# Altium schematic symbol library pin_functions_native.SchLib: 2 symbols
Pins are listed as number, name and electrical type; pins without a type are passive.

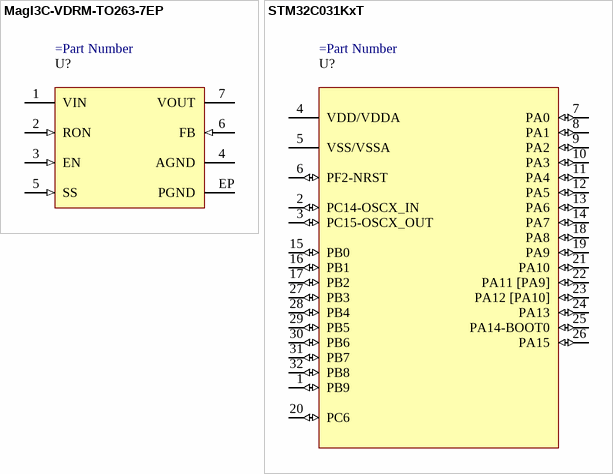
[diagram p0: symbols MagI3C-VDRM-TO263-7EP to STM32C031KxT]

## MagI3C-VDRM-TO263-7EP
designator U?
Variable step-down regulator module, TO263-7EP; EP is PGND
footprint TO263-7EP (TO263-7EP; pin EP connects to PGND)
pins: 1 VIN (power), 2 RON (in), 3 EN (in), 4 AGND (power), 5 SS (in), 6 FB (in), 7 VOUT (power), EP PGND (power)

## STM32C031KxT
designator U?
STM32C031KxT microcontroller, LQFP32; PA9/PA10 remapping supported
footprint LQFP-32 (LQFP32, 7x7mm body, 0.8mm pitch)
pins: 1 PB9 (io) "Functions: IR_OUT USART2_RTS_DE_CK TIM17_CH1 TIM3_CH2 I2C1_SDA EVENTOUT", 2 PC14-OSCX_IN (io) "Functions: PC14 USART1_TX TIM1_ETR TIM1_BKIN2 IR_OUT USART2_RTS_DE_CK TIM17_CH1 TIM3_CH2 I2C1_SDA EVENTOUT OSCX_IN", 3 PC15-OSCX_OUT (io) "Functions: PC15 OSC32_EN OSC_EN TIM1_ETR TIM3_CH3 OSCX_OUT", 4 VDD/VDDA (power) "Functions: VDD VDDA", 5 VSS/VSSA (power) "Functions: VSS VSSA", 6 PF2-NRST (io) "Reset is active low; PF2 also supports GPIO. Functions: PF2 MCO TIM1_CH4 N\R\S\T\", 7 PA0 (io) "Functions: USART2_CTS TIM16_CH1 USART1_TX TIM1_CH1 ADC_IN0 WKUP1", 8 PA1 (io) "Functions: SPI1_SCK I2S1_CK USART2_RTS_DE_CK TIM17_CH1 USART1_RX TIM1_CH2 I2C1_SMBA EVENTOUT ADC_IN1", 9 PA2 (io) "Functions: SPI1_MOSI I2S1_SD USART2_TX TIM16_CH1N TIM3_ETR TIM1_CH3 ADC_IN2 WKUP4 LSCO", 10 PA3 (io) "Functions: USART2_RX TIM1_CH1N TIM1_CH4 EVENTOUT ADC_IN3", 11 PA4 (io) "Functions: SPI1_NSS I2S1_WS USART2_TX TIM1_CH2N TIM14_CH1 TIM17_CH1N EVENTOUT ADC_IN4 RTC_TS RTC_OUT1 WKUP2", 12 PA5 (io) "Functions: SPI1_SCK I2S1_CK USART2_RX TIM1_CH3N TIM1_CH1 EVENTOUT ADC_IN5", 13 PA6 (io) "Functions: SPI1_MISO I2S1_MCK TIM3_CH1 TIM1_BKIN TIM16_CH1 ADC_IN6", 14 PA7 (io) "Functions: SPI1_MOSI I2S1_SD TIM3_CH2 TIM1_CH1N TIM14_CH1 TIM17_CH1 ADC_IN7", 15 PB0 (io) "Functions: SPI1_NSS I2S1_WS TIM3_CH3 TIM1_CH2N ADC_IN17", 16 PB1 (io) "Functions: TIM14_CH1 TIM3_CH4 TIM1_CH3N TIM1_CH2N EVENTOUT ADC_IN18", 17 PB2 (io) "Functions: USART1_RX MCO2 EVENTOUT ADC_IN19", 18 PA8 (io) "Functions: MCO USART2_TX TIM1_CH1 EVENTOUT SPI1_NSS I2S1_WS TIM1_CH2N TIM1_CH3N TIM3_CH3 TIM3_CH4 TIM14_CH1 USART1_RX MCO2 ADC_IN8", 19 PA9 (io) "Functions: MCO USART1_TX TIM1_CH2 TIM3_ETR I2C1_SCL EVENTOUT", 20 PC6 (io) "Functions: TIM3_CH1", 21 PA10 (io) "Functions: USART1_RX TIM1_CH3 MCO2 TIM17_BKIN I2C1_SDA EVENTOUT", 22 PA11 [PA9] (io) "PA9/PA10 functions require SYSCFG_CFGR1 remapping; default PA11/PA12. Functions: PA11 PA9 SPI1_MISO I2S1_MCK USART1_CTS TIM1_CH4 TIM1_BKIN2 ADC_IN11 MCO USART1_TX TIM1_CH2 TIM3_ETR I2C1_SCL EVENTOUT", 23 PA12 [PA10] (io) "PA9/PA10 functions require SYSCFG_CFGR1 remapping; default PA11/PA12. Functions: PA12 PA10 SPI1_MOSI I2S1_SD USART1_RTS_DE_CK TIM1_ETR I2S_CKIN ADC_IN12 USART1_RX TIM1_CH3 MCO2 TIM17_BKIN I2C1_SDA EVENTOUT", 24 PA13 (io) "Functions: SWDIO IR_OUT TIM3_ETR USART2_RX EVENTOUT ADC_IN13", 25 PA14-BOOT0 (io) "Functions: PA14 SWCLK USART2_TX EVENTOUT SPI1_NSS I2S1_WS USART2_RX TIM1_CH1 MCO2 USART1_RTS_DE_CK ADC_IN14 BOOT0", 26 PA15 (io) "Functions: SPI1_NSS I2S1_WS USART2_RX TIM1_CH1 MCO2 USART1_RTS_DE_CK EVENTOUT", 27 PB3 (io) "Functions: SPI1_SCK I2S1_CK TIM1_CH2 TIM3_CH2 USART1_RTS_DE_CK EVENTOUT", 28 PB4 (io) "Functions: SPI1_MISO I2S1_MCK TIM3_CH1 USART1_CTS TIM17_BKIN EVENTOUT", 29 PB5 (io) "Functions: SPI1_MOSI I2S1_SD TIM3_CH2 TIM16_BKIN TIM3_CH3 I2C1_SMBA WKUP6", 30 PB6 (io) "Functions: USART1_TX TIM1_CH3 TIM16_CH1N TIM3_CH3 USART1_RTS_DE_CK USART1_CTS I2C1_SCL I2C1_SMBA SPI1_MOSI I2S1_SD SPI1_MISO I2S1_MCK SPI1_SCK I2S1_CK TIM1_CH2 TIM3_CH1 TIM3_CH2 TIM16_BKIN TIM17_BKIN WKUP3", 31 PB7 (io) "Functions: USART1_RX TIM1_CH4 TIM17_CH1N TIM3_CH4 I2C1_SDA EVENTOUT USART2_CTS TIM16_CH1 TIM3_CH1 I2C1_SCL RTC_REFIN", 32 PB8 (io) "Functions: USART2_CTS TIM16_CH1 TIM3_CH1 I2C1_SCL EVENTOUT"